# EAGLE library part SMD.1X20 (library untitled)
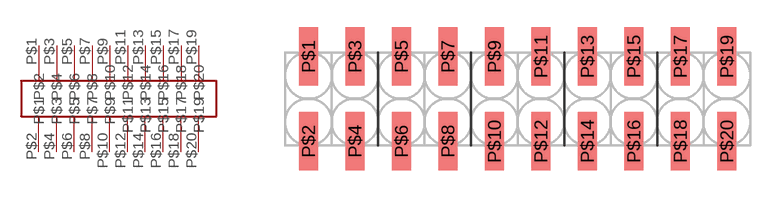
[diagram p4: symbol with the pads of SMD0.1X20; footprint SMD0.1X20]

Designator prefix -

## SMD.1X20  [SMD0.1X20]
P$1  P$1
P$2  P$2
P$3  P$3
P$4  P$4
P$5  P$5
P$6  P$6
P$7  P$7
P$8  P$8
P$9  P$9
P$10  P$10
P$11  P$11
P$12  P$12
P$13  P$13
P$14  P$14
P$15  P$15
P$16  P$16
P$17  P$17
P$18  P$18
P$19  P$19
P$20  P$20

## Footprint SMD0.1X20 (pad centres in mm)
smd 1.02 x 3.18: P$1 -11.43,2.32; P$2 -11.43,-2.32; P$3 -8.89,2.32; P$4 -8.89,-2.32; P$5 -6.35,2.32; P$6 -6.35,-2.32; P$7 -3.81,2.32; P$8 -3.81,-2.32; P$9 -1.27,2.32; P$10 -1.27,-2.32; P$11 1.27,2.32; P$12 1.27,-2.32; P$13 3.81,2.32; P$14 3.81,-2.32; P$15 6.35,2.32; P$16 6.35,-2.32; P$17 8.89,2.32; P$18 8.89,-2.32; P$19 11.43,2.32; P$20 11.43,-2.32